# Altium integrated library Resistor_220_0805.IntLib: 1 symbol
Pins are listed as number, name and electrical type; pins without a type are passive.

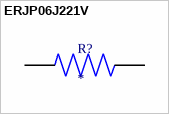
[diagram p0: symbol ERJP06J221V]

## ERJP06J221V
designator R?
MP: ERJP06J221V; Availability: Unavailable; Package: None; Price: None; Value: *
footprint RES_ERJP06J221V
pins: 1, 2